# Altium schematic symbol library TB6612FNGSCHLIB.SCHLIB: 1 symbol
Pins are listed as number, name and electrical type; pins without a type are passive.

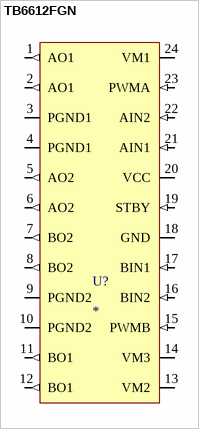
[diagram p0: symbol TB6612FGN]

## TB6612FGN
designator U?
footprint TBS6612FNG (TSOP, 24-Leads, Body 8.30x5.60mm, Pitch 0.65mm, IPC Medium Density)
pins: 1 AO1 (out), 2 AO1 (out), 3 PGND1, 4 PGND1, 5 AO2 (out), 6 AO2 (out), 7 BO2 (out), 8 BO2 (out), 9 PGND2, 10 PGND2, 11 BO1 (out), 12 BO1 (out), 13 VM2, 14 VM3, 15 PWMB (in), 16 BIN2 (in), 17 BIN1 (in), 18 GND, 19 STBY (in), 20 VCC, 21 AIN1 (in), 22 AIN2 (in), 23 PWMA (in), 24 VM1